# EAGLE library part HDR-1X20 (library con-hdrs40)
HEADER CONNECTOR
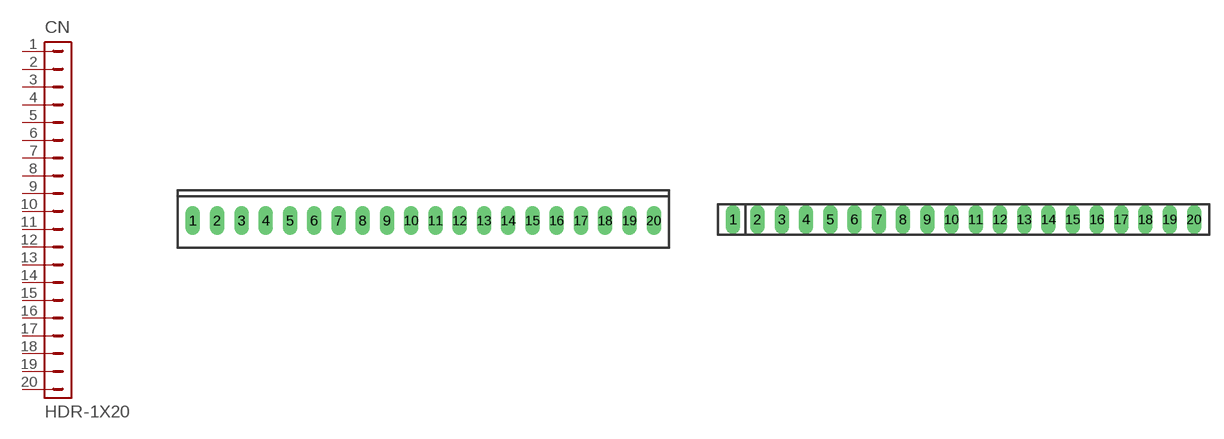
[diagram p14: symbol with the pads of MTA-100-20V; footprints MTA-100-20V, SIP-100-20V]

Designator prefix CN

## HDR-1X20-MTA-100  [MTA-100-20V]
1  1  pas
2  2  pas
3  3  pas
4  4  pas
5  5  pas
6  6  pas
7  7  pas
8  8  pas
9  9  pas
10  10  pas
11  11  pas
12  12  pas
13  13  pas
14  14  pas
15  15  pas
16  16  pas
17  17  pas
18  18  pas
19  19  pas
20  20  pas

## HDR-1X20-SIP-100  [SIP-100-20V]
Pads as for MTA-100-20V

## HDR-1X20-FH21-20  [FH21-20]
Pads as for MTA-100-20V

## Footprint MTA-100-20V (pad centres in mm)
AMP MTA Vertical .100" 20 pin
drill 1.016 long: 1 -24.13,0; 2 -21.59,0; 3 -19.05,0; 4 -16.51,0; 5 -13.97,0; 6 -11.43,0; 7 -8.89,0; 8 -6.35,0; 9 -3.81,0; 10 -1.27,0; 11 1.27,0; 12 3.81,0; 13 6.35,0; 14 8.89,0; 15 11.43,0; 16 13.97,0; 17 16.51,0; 18 19.05,0; 19 21.59,0; 20 24.13,0

## Footprint SIP-100-20V (pad centres in mm)
SIP Header Vertical 100" 20 pin
drill 1.016 long: 1 -24.13,0; 2 -21.59,0; 3 -19.05,0; 4 -16.51,0; 5 -13.97,0; 6 -11.43,0; 7 -8.89,0; 8 -6.35,0; 9 -3.81,0; 10 -1.27,0; 11 1.27,0; 12 3.81,0; 13 6.35,0; 14 8.89,0; 15 11.43,0; 16 13.97,0; 17 16.51,0; 18 19.05,0; 19 21.59,0; 20 24.13,0

## Footprint FH21-20 (pad centres in mm)
Hirose FH21 1 MM Flex Connector right angle, 20 pin,
drill 0.813 square: 1 -9.5,-1
drill 0.813 round: 2 -8.5,1; 3 -7.5,-1; 4 -6.5,1; 5 -5.5,-1; 6 -4.5,1; 7 -3.5,-1; 8 -2.5,1; 9 -1.5,-1; 10 -0.5,1; 11 0.5,-1; 12 1.5,1; 13 2.5,-1; 14 3.5,1; 15 4.5,-1; 16 5.5,1; 17 6.5,-1; 18 7.5,1; 19 8.5,-1; 20 9.5,1